# Altium schematic symbol library AP3512EMPTR-G1.SchLib: 1 symbol
Pins are listed as number, name and electrical type; pins without a type are passive.

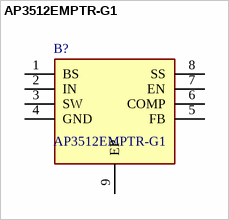
[diagram p0: symbol AP3512EMPTR-G1]

## AP3512EMPTR-G1
designator B?
18V 2A Sync DC-DC Buck Converter PSOP8 DiodesZetex AP3512EMPTR-G1, Buck Converter, 2A, Adjustable, 3.3 (Max.) V, 8-Pin PSOP; Manufacturer_Name: Diodes Inc.; Geometry.Height: 1.55mm; Mouser Part Number: 621-AP3512EMPTR-G1; Mouser Price/Stock: https://www.mouser.co.uk/ProductDetail/Diodes-Incorporated/AP3512EMPTR-G1?qs=x6A8l6qLYDAUQ0hVzXyp4Q%3D%3D; Manufacturer_Part_Number: AP3512EMPTR-G1; Datasheet Link: https://datasheet.datasheetarchive.com/originals/distributors/Datasheets_SAMA/3fa639d278b11857a1cfc2283c05bc22.pdf
footprint SOIC127P600X155-9N
pins: 1 BS, 2 IN, 3 SW, 4 GND, 5 FB, 6 COMP, 7 EN, 8 SS, 9 EP